# Altium footprint library MiCore.PcbLib: 29 footprints (part 2 of 2)
Each footprint in its own frame and in the unit in brackets; x right, y up, seen from the top. Pads: shape width x height; smd on the part's side, far side on the other; paste and mask are expansions set on the pad; w line width, h text height; cw(c..) or ccw(c..) is an arc to the next point about the centre after c.
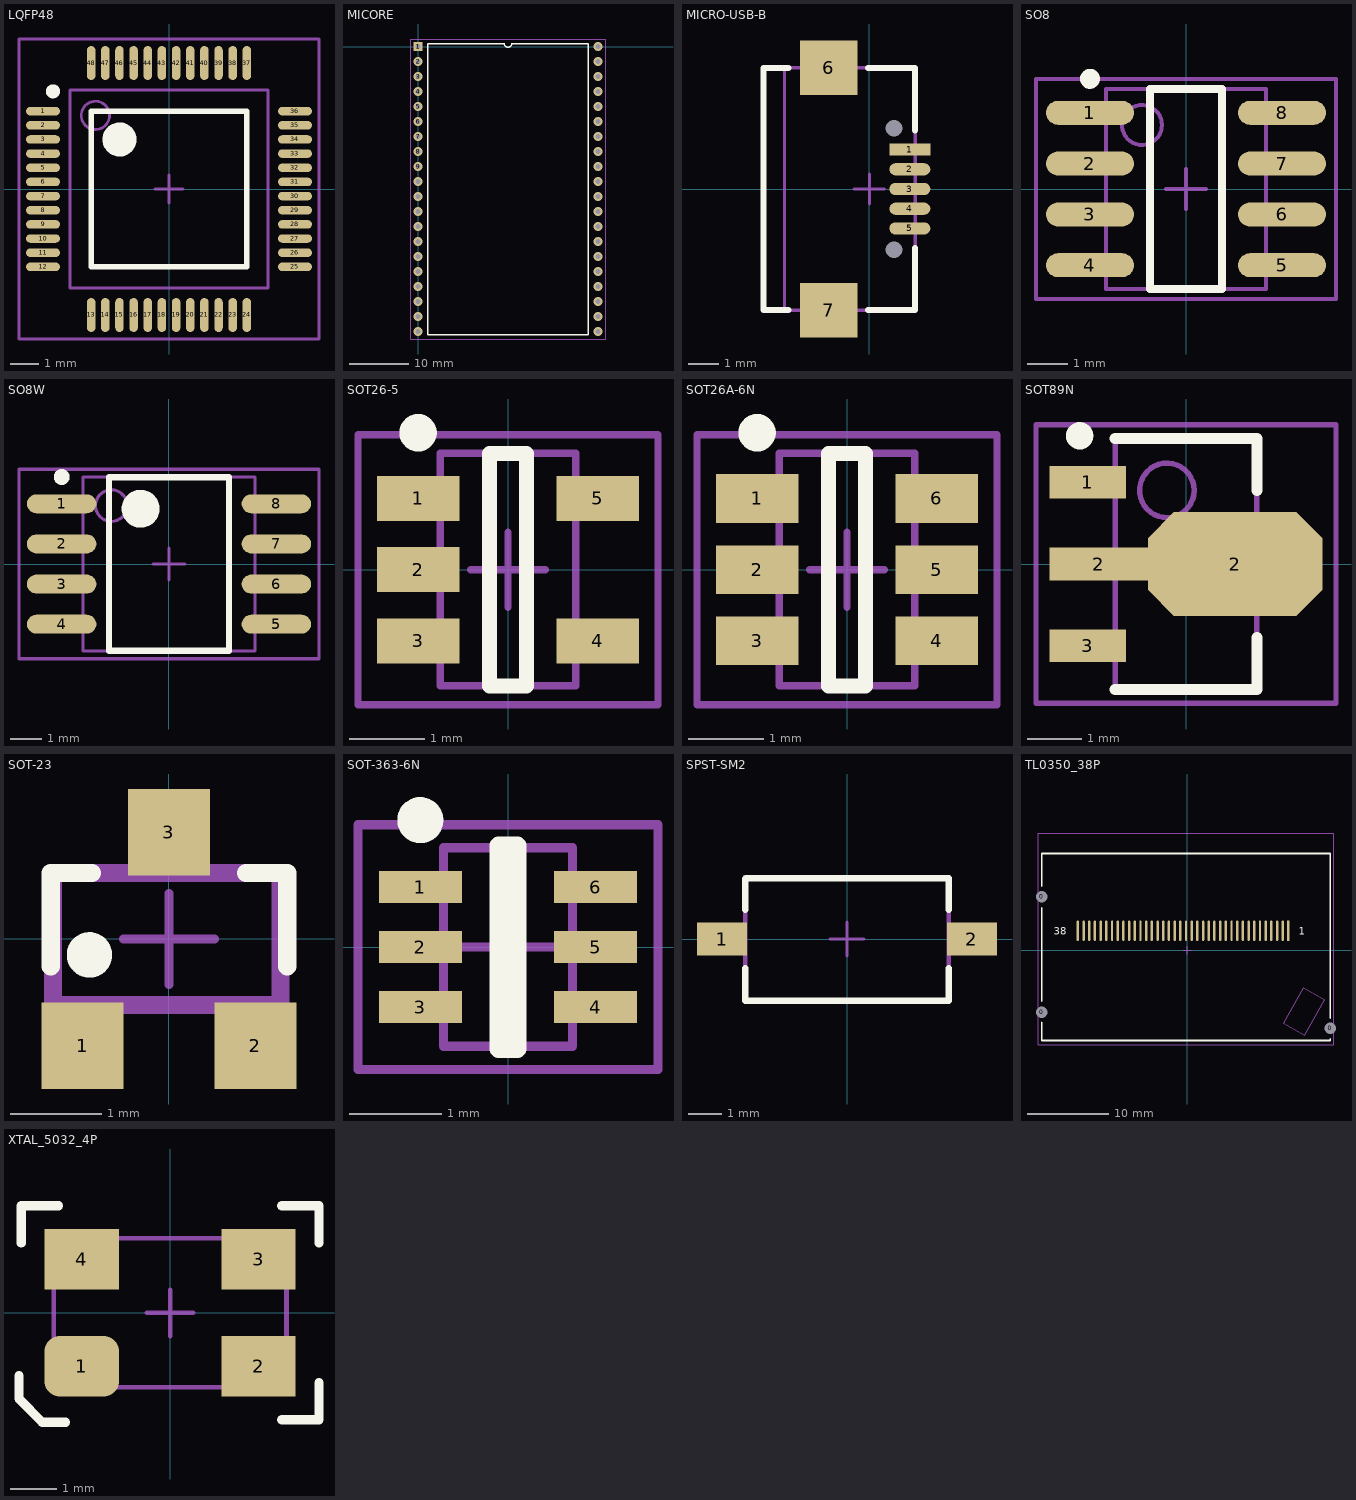
[diagram p1: the footprints below, top view; thin cyan lines are the x and y axes]

## LQFP48 [mm] "Thin QFP, 48-Leads, Body 7x7mm, Pitch 0.5mm"
height 1.6
pads (48):
  oval 1.2x0.3 smd: 1(-4.45,2.75) 2(-4.45,2.25) 3(-4.45,1.75) 4(-4.45,1.25) 5(-4.45,0.75) 6(-4.45,0.25) 7(-4.45,-0.25) 8(-4.45,-0.75) 9(-4.45,-1.25) 10(-4.45,-1.75) 11(-4.45,-2.25) 12(-4.45,-2.75) 25(4.45,-2.75) 26(4.45,-2.25) 27(4.45,-1.75) 28(4.45,-1.25) 29(4.45,-0.75) 30(4.45,-0.25) 31(4.45,0.25) 32(4.45,0.75) 33(4.45,1.25) 34(4.45,1.75) 35(4.45,2.25) 36(4.45,2.75)
  oval 0.3x1.2 smd: 13(-2.75,-4.45) 14(-2.25,-4.45) 15(-1.75,-4.45) 16(-1.25,-4.45) 17(-0.75,-4.45) 18(-0.25,-4.45) 19(0.25,-4.45) 20(0.75,-4.45) 21(1.25,-4.45) 22(1.75,-4.45) 23(2.25,-4.45) 24(2.75,-4.45) 37(2.75,4.45) 38(2.25,4.45) 39(1.75,4.45) 40(1.25,4.45) 41(0.75,4.45) 42(0.25,4.45) 43(-0.25,4.45) 44(-0.75,4.45) 45(-1.25,4.45) 46(-1.75,4.45) 47(-2.25,4.45) 48(-2.75,4.45)
Top Overlay:
  circle w0.25: c-4.1,3.45 r0.125
  circle w0.6: c-1.75,1.75 r0.3
  lines w0.2: -2.75,-2.75 -2.75,2.75 2.75,2.75 2.75,-2.75 -2.75,-2.75
Mechanical 13:
  circle w0.1: c-2.6,2.6 r0.5
  lines w0.1: -3.5,-3.5 -3.5,3.5 3.5,3.5 3.5,-3.5 -3.5,-3.5
Mechanical 15:
  lines w0.1: -0.5,0 0.5,0 ; 0,-0.5 0,0.5 ; -5.3,-5.3 -5.3,5.3 5.3,5.3 5.3,-5.3 -5.3,-5.3
3D body: height 1.6, standoff 0, extent -3.5,-3.5 3.5,3.5

## MICORE [mm] "MiCore核心板封装"
pads (40):
  rect 1.5x1.5 hole 0.9: 1(0,0)
  round 1.5 hole 0.9: 2(0,-2.54) 3(0,-5.08) 4(0,-7.62) 5(0,-10.16) 6(0,-12.7) 7(0,-15.24) 8(0,-17.78) 9(0,-20.32) 10(0,-22.86) 11(0,-25.4) 12(0,-27.94) 13(0,-30.48) 14(0,-33.02) 15(0,-35.56) 16(0,-38.1) 17(0,-40.64) 18(0,-43.18) 19(0,-45.72) 20(0,-48.26) 21(30.48,-48.26) 22(30.48,-45.72) 23(30.48,-43.18) 24(30.48,-40.64) 25(30.48,-38.1) 26(30.48,-35.56) 27(30.48,-33.02) 28(30.48,-30.48) 29(30.48,-27.94) 30(30.48,-25.4) 31(30.48,-22.86) 32(30.48,-20.32) 33(30.48,-17.78) 34(30.48,-15.24) 35(30.48,-12.7) 36(30.48,-10.16) 37(30.48,-7.62) 38(30.48,-5.08) 39(30.48,-2.54) 40(30.48,0)
Top Overlay:
  lines w0.254: 1.639,-48.768 1.639,0.508 14.605,0.508 ccw(c15.24,0.508) 15.875,0.508 28.841,0.508 28.841,-48.768 1.639,-48.768
Mechanical 13:
  lines w0.2: -1.27,-49.53 -1.27,1.27 31.75,1.27 31.75,-49.53 -1.27,-49.53
3D body: height 14.05, standoff 8.11, extent -1.27,-50.223 31.75,1.27

## MICRO-USB-B [mm] "MicroUSB贴片母座"
pads (9):
  round 0 hole 0.55: 0(0.813,-2) 0(0.813,2)
  rect 1.35x0.4 smd: 1(1.338,1.3)
  oval 1.35x0.4 smd: 2(1.338,0.65) 3(1.338,0) 4(1.338,-0.65) 5(1.338,-1.3)
  rect 1.9x1.8 smd: 6(-1.337,4) 7(-1.337,-4)
Top Overlay:
  lines w0.2: -2.662,-4 -3.487,-4 -3.487,4 -2.662,4 ; -0.038,-4 1.513,-4 1.513,-1.95 ; -0.038,4 1.513,4 1.513,1.925
Mechanical 13:
  lines w0.127: -3.487,-4 -3.487,4 1.513,4 1.513,-4 -3.487,-4
Mechanical 15:
  lines w0.1: -2.8,-4 -2.8,4 ; -0.5,0 0.5,0 ; 0,-0.5 0,0.5
3D body: height 2.5, standoff 0, extent -3.487,-4 1.513,3.975

## SO8 [mm] "SOIC, 8-Leads, Body 4.9x3.9mm, Pitch 1.27mm, IPC Medium Density"
height 1.75
pads (8):
  oval 2.2x0.6 smd: 1(-2.4,1.905) 2(-2.4,0.635) 3(-2.4,-0.635) 4(-2.4,-1.905) 5(2.4,-1.905) 6(2.4,-0.635) 7(2.4,0.635) 8(2.4,1.905)
Top Overlay:
  circle w0.25: c-2.4,2.755 r0.125
  lines w0.2: -0.9,-2.5 -0.9,2.5 0.9,2.5 0.9,-2.5 -0.9,-2.5
Mechanical 13:
  circle w0.1: c-1.1,1.6 r0.5
  lines w0.1: -2,-2.5 -2,2.5 2,2.5 2,-2.5 -2,-2.5
Mechanical 15:
  lines w0.1: -0.5,0 0.5,0 ; 0,-0.5 0,0.5 ; -3.75,-2.75 -3.75,2.75 3.75,2.75 3.75,-2.75 -3.75,-2.75
3D body: height 1.75, standoff 0, extent -2,-2.5 2,2.5

## SO8W [mm] "SOP8宽体208mil"
height 2.13
pads (8):
  oval 2.2x0.6 smd: 1(-3.4,1.905) 2(-3.4,0.635) 3(-3.4,-0.635) 4(-3.4,-1.905) 5(3.4,-1.905) 6(3.4,-0.635) 7(3.4,0.635) 8(3.4,1.905)
Top Overlay:
  circle w0.6: c-0.9,1.75 r0.3
  circle w0.25: c-3.4,2.755 r0.125
  lines w0.2: -1.9,-2.75 1.9,-2.75 1.9,2.75 -1.9,2.75 -1.9,-2.75
Mechanical 13:
  circle w0.1: c-1.825,1.85 r0.5
  lines w0.1: -2.725,-2.75 2.725,-2.75 2.725,2.75 -2.725,2.75 -2.725,-2.75
Mechanical 15:
  lines w0.1: -0.5,0 0.5,0 ; 0,-0.5 0,0.5 ; -4.75,-3 4.75,-3 4.75,3 -4.75,3 -4.75,-3
3D body: height 2.13, standoff 0, extent -2.725,-2.75 2.725,2.75

## SOT26-5 [mm] "SOT26-5"
pads (5):
  rect 1.1x0.6 smd: 1(-1.2,0.95) 2(-1.2,0) 3(-1.2,-0.95) 4(1.2,-0.95) 5(1.2,0.95)
Top Overlay:
  circle w0.25: c-1.2,1.825 r0.125
  lines w0.2: -0.25,-1.55 0.25,-1.55 0.25,1.55 -0.25,1.55 -0.25,-1.55
Mechanical 13:
  lines w0.1: -0.9,-1.55 -0.9,1.55 0.9,1.55 0.9,-1.55 -0.9,-1.55
Mechanical 15:
  lines w0.1: -0.5,0 0.5,0 ; 0,-0.5 0,0.5 ; -2,-1.8 -2,1.8 2,1.8 2,-1.8 -2,-1.8
3D body: height 1.45, standoff 0, extent -0.9,-1.55 0.9,1.55

## SOT26A-6N [mm] "SOT26A-6N"
pads (6):
  rect 1.1x0.65 smd: 1(-1.2,0.95) 2(-1.2,0) 3(-1.2,-0.95) 4(1.2,-0.95) 5(1.2,0) 6(1.2,0.95)
Top Overlay:
  circle w0.25: c-1.2,1.825 r0.125
  lines w0.2: -0.25,-1.55 0.25,-1.55 0.25,1.55 -0.25,1.55 -0.25,-1.55
Mechanical 13:
  lines w0.1: -0.9,-1.55 -0.9,1.55 0.9,1.55 0.9,-1.55 -0.9,-1.55
Mechanical 15:
  lines w0.1: -0.5,0 0.5,0 ; 0,-0.5 0,0.5 ; -2,-1.8 -2,1.8 2,1.8 2,-1.8 -2,-1.8
3D body: height 1.45, standoff 0, extent -0.9,-1.55 0.9,1.55

## SOT89N [mm] "SOT89, 3-Leads, Body 4.5x2.4 mm, Pitch 1.5mm, Lead Span 4.1mm, IPC Medium Density"
height 1.6
pads (4):
  rect 1.4x0.6 smd: 1(-1.8,1.5) 3(-1.8,-1.5)
  rect 1.8x0.6 smd: 2(-1.6,0)
  oct 3.2x1.9 smd: 2(0.9,0)
Top Overlay:
  circle w0.25: c-1.95,2.35 r0.125
  lines w0.2: -1.3,-2.3 1.3,-2.3 1.3,-1.35 ; -1.3,2.3 1.3,2.3 1.3,1.35
Mechanical 13:
  circle w0.1: c-0.35,1.35 r0.5
  lines w0.1: -1.3,-2.3 1.3,-2.3 1.3,2.3 -1.3,2.3 -1.3,-2.3
Mechanical 15:
  lines w0.1: -0.5,0 0.5,0 ; 0,-0.5 0,0.5 ; -2.75,-2.55 2.75,-2.55 2.75,2.55 -2.75,2.55 -2.75,-2.55
3D body: height 1.6, standoff 0, extent -1.3,-2.3 1.3,2.3

## SOT-23 [mm] "SOT-23"
pads (3):
  rect 0.9x0.95 smd: 1(-0.95,-1.175) 2(0.95,-1.175) 3(0,1.175)
Top Overlay:
  circle w0.25: c-0.875,-0.175 r0.125
  lines w0.2: -1.3,-0.3 -1.3,0.725 -0.85,0.725 ; 0.85,0.725 1.3,0.725 1.3,-0.3
Mechanical 13:
  lines w0.2: -1.275,-0.725 -1.275,0.725 1.225,0.725 1.225,-0.725 -1.275,-0.725
Mechanical 15:
  lines w0.1: -0.5,0 0.5,0 ; 0,-0.5 0,0.5
3D body: height 1.1, standoff 0, extent -1.3,-0.725 1.225,0.725

## SOT-363-6N [mm] "SOT23, 6-Leads, Body 2.2x2.4mm (max), Pitch 0.65mm, IPC Medium Density"
height 1.1
pads (6):
  rect 0.9x0.35 smd: 1(-0.95,0.65) 2(-0.95,0) 3(-0.95,-0.65) 4(0.95,-0.65) 5(0.95,0) 6(0.95,0.65)
Top Overlay:
  circle w0.25: c-0.95,1.375 r0.125
  lines w0.2: -0.1,-1.1 -0.1,1.1 0.1,1.1 0.1,-1.1 -0.1,-1.1
Mechanical 13:
  lines w0.1: -0.7,-1.075 0.7,-1.075 0.7,1.075 -0.7,1.075 -0.7,-1.075
Mechanical 15:
  lines w0.1: -0.5,0 0.5,0 ; 0,-0.5 0,0.5 ; -1.625,-1.325 1.625,-1.325 1.625,1.325 -1.625,1.325 -1.625,-1.325
3D body: height 1.1, standoff 0.05, extent -0.7,-1.075 0.7,1.075

## SPST-SM2 [mm] "贴片按键"
pads (2):
  rect 1.5x1 smd: 1(-3.75,0) 2(3.75,0)
Top Overlay:
  lines w0.2: -3.05,-0.875 -3.05,-1.85 3.05,-1.85 3.05,-0.875 ; -3.05,0.875 -3.05,1.8 ; 3.05,0.875 3.05,1.825 -3.025,1.825 -3.05,1.8 ; -3.05,1.8 -3.05,1.8
Mechanical 13:
  lines w0.127: -3.05,-1.85 -3.05,1.85 3.05,1.85 3.05,-1.85 -3.05,-1.85
Mechanical 15:
  lines w0.1: -0.5,0 0.5,0 ; 0,-0.5 0,0.5
3D body: height 2, standoff 0, extent -3.025,-1.85 3.075,1.85
3D body: height 2.5, standoff 2, extent -1.25,-0.625 1.25,0.625

## TL0350_38P [mm] "LCD, 主控TL0350, 38P*0.7mm"
pads (41):
  round 1 hole 1.4: 0(-17.9,-7.6) 0(-17.9,6.6) 0(17.6,-9.6)
  rect 0.3x2.5 smd: 1(12.45,2.4)
  oval 0.3x2.5 smd: 2(11.75,2.4) 3(11.05,2.4) 4(10.35,2.4) 5(9.65,2.4) 6(8.95,2.4) 7(8.25,2.4) 8(7.55,2.4) 9(6.85,2.4) 10(6.15,2.4) 11(5.45,2.4) 12(4.75,2.4) 13(4.05,2.4) 14(3.35,2.4) 15(2.65,2.4) 16(1.95,2.4) 17(1.25,2.4) 18(0.55,2.4) 19(-0.15,2.4) 20(-0.85,2.4) 21(-1.55,2.4) 22(-2.25,2.4) 23(-2.95,2.4) 24(-3.65,2.4) 25(-4.35,2.4) 26(-5.05,2.4) 27(-5.75,2.4) 28(-6.45,2.4) 29(-7.15,2.4) 30(-7.85,2.4) 31(-8.55,2.4) 32(-9.25,2.4) 33(-9.95,2.4) 34(-10.65,2.4) 35(-11.35,2.4) 36(-12.05,2.4) 37(-12.75,2.4) 38(-13.45,2.4)
Top Overlay:
  lines w0.2: -17.9,-8.875 -17.9,-11.1 17.6,-11.1 17.6,-10.875 ; -17.9,-6.25 -17.9,5.25 ; -17.9,7.875 -17.9,11.9 17.6,11.9 17.6,-8.375
  text "38" at -16.4,1.9 h0.89
  text "1" at 13.7,1.9 h0.89
Mechanical 13:
  lines w0.127: -18.339,-11.627 -18.339,14.4 18,14.4 18,-11.627 -18.339,-11.627 ; 11.855,-8.95 14.364,-4.604 16.939,-6.092 14.431,-10.437 11.855,-8.95
Mechanical 15:
  lines w0.1: -0.5,0 0.5,0 ; 0,-0.5 0,0.5
3D body: height 3, standoff 1, extent -18.339,-11.627 18,14.4
3D body: height 3.05, standoff 3, extent -17.001,-10.5 16.75,9.75

## XTAL_5032_4P [mm] "4脚5mm*3.2mm贴片晶振"
pads (4):
  rrect50% 1.6x1.3 smd: 1(-1.9,-1.15)
  rect 1.6x1.3 smd: 2(1.9,-1.15) 3(1.9,1.15) 4(-1.9,1.15)
Top Overlay:
  lines w0.2: -3.25,-1.35 -3.25,-1.85 -2.75,-2.35 -2.25,-2.35 ; -3.2,1.5 -3.2,2.3 -2.4,2.3 ; 2.4,-2.3 3.2,-2.3 3.2,-1.5 ; 2.4,2.3 3.2,2.3 3.2,1.5
Mechanical 13:
  lines w0.1: -2.5,-1.6 -2.5,1.6 2.5,1.6 2.5,-1.6 -2.5,-1.6
Mechanical 15:
  lines w0.1: -0.5,0 0.5,0 ; 0,-0.5 0,0.5
3D body: height 0.8, standoff 0, extent -2.5,-1.6 2.5,1.6